# Altium footprint library TK2 Family.PcbLib: 1 footprints
Each footprint in its own frame and in the unit in brackets; x right, y up, seen from the top. Pads: shape width x height; smd on the part's side, far side on the other; paste and mask are expansions set on the pad; w line width, h text height; cw(c..) or ccw(c..) is an arc to the next point about the centre after c.
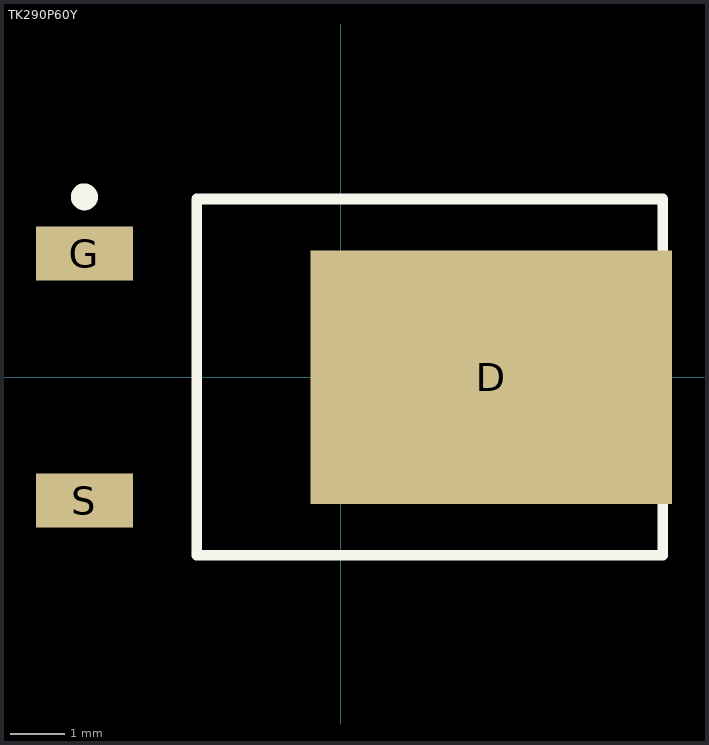
[diagram p0: the footprint, top view; thin cyan lines are the x and y axes]

## TK290P60Y [mm] "N-Channel 600V 11.5A (Tc) 100W (Tc) Surface Mount DPAK"
height 2.3
pads (3):
  rect 6.7x4.7 smd: D(2.794,0)
  rect 1.8x1 smd: G(-4.75,2.29) S(-4.75,-2.29)
Top Overlay:
  circle w0.25: c-4.75,3.34 r0.125
  lines w0.2: -2.667,-3.3 -1.45,-3.3 5.969,-3.3 5.969,3.3 -1.45,3.3 -2.667,3.3 -2.667,-3.3
Mechanical 15:
  lines w0.1: -0.5,0 0.5,0 ; 0,-0.5 0,0.5
3D body "D-PAK.step": height 2.3, standoff 0, extent -4.996,-3.12 4.504,3.374